# EAGLE library part MAX4090 (library Traficon)
3V/5V, 6dB Video Buffer with Sync-Tip Clamp and 150nA Shutdown Current
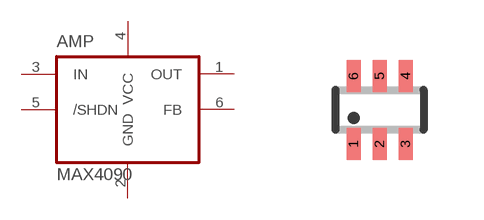
[diagram p106: symbol with the pads of SC70-6L; footprint SC70-6L]

Designator prefix AMP

## MAX4090AAXT-T  [SC70-6L]
1  OUT
2  GND
3  IN
4  VCC
5  /SHDN
6  FB

## Footprint SC70-6L (pad centres in mm)
SC-70 Package
smd 0.35 x 0.8: 1 -0.65,-0.85; 2 0,-0.85; 3 0.65,-0.85; 4 0.65,0.85; 5 0,0.85; 6 -0.65,0.85